# EAGLE library part POKET_BEAGLE_PINOUT_P2_SIDE (library Pocket_Beagle_Pinout)
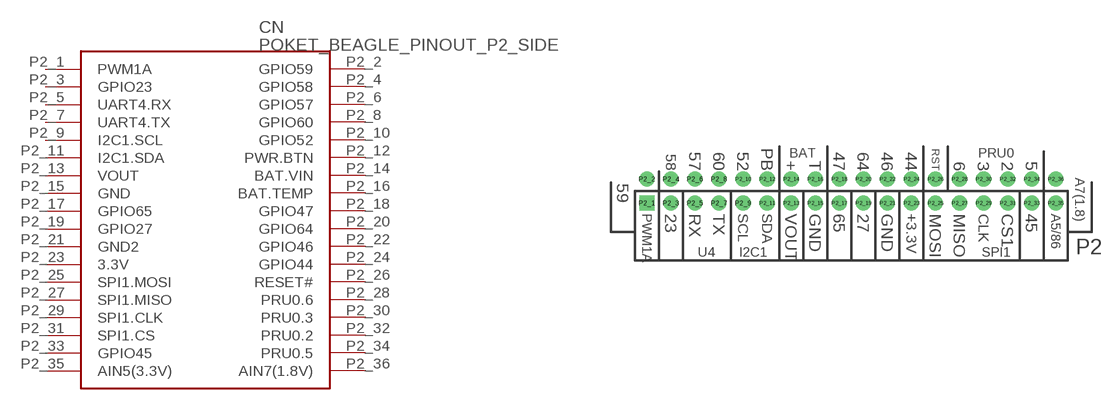
[diagram p3: symbol with the pads of POKET_BEAGLE_PINOUT_P2_SIDE; footprint POKET_BEAGLE_PINOUT_P2_SIDE]

Designator prefix CN

## POKET_BEAGLE_PINOUT_P2_SIDE  [POKET_BEAGLE_PINOUT_P2_SIDE]
P2_1  PWM1A
P2_2  GPIO59
P2_3  GPIO23
P2_4  GPIO58
P2_5  UART4.RX
P2_6  GPIO57
P2_7  UART4.TX
P2_8  GPIO60
P2_9  I2C1.SCL
P2_10  GPIO52
P2_11  I2C1.SDA
P2_12  PWR.BTN
P2_13  VOUT
P2_14  BAT.VIN
P2_15  GND
P2_16  BAT.TEMP
P2_17  GPIO65
P2_18  GPIO47
P2_19  GPIO27
P2_20  GPIO64
P2_21  GND2
P2_22  GPIO46
P2_23  3.3V
P2_24  GPIO44
P2_25  SPI1.MOSI
P2_26  RESET#
P2_27  SPI1.MISO
P2_28  PRU0.6
P2_29  SPI1.CLK
P2_30  PRU0.3
P2_31  SPI1.CS
P2_32  PRU0.2
P2_33  GPIO45
P2_34  PRU0.5
P2_35  AIN5(3.3V)
P2_36  AIN7(1.8V)

## Footprint POKET_BEAGLE_PINOUT_P2_SIDE (pad centres in mm)
drill 0.8 pad 1.6 square: P2_1 -21.59,-1.27
drill 0.8 pad 1.6: P2_2 -21.59,1.27; P2_3 -19.05,-1.27; P2_4 -19.05,1.27; P2_5 -16.51,-1.27; P2_6 -16.51,1.27; P2_7 -13.97,-1.27; P2_8 -13.97,1.27; P2_9 -11.43,-1.27; P2_10 -11.43,1.27; P2_11 -8.89,-1.27; P2_12 -8.89,1.27; P2_13 -6.35,-1.27; P2_14 -6.35,1.27; P2_15 -3.81,-1.27; P2_16 -3.81,1.27; P2_17 -1.27,-1.27; P2_18 -1.27,1.27; P2_19 1.27,-1.27; P2_20 1.27,1.27; P2_21 3.81,-1.27; P2_22 3.81,1.27; P2_23 6.35,-1.27; P2_24 6.35,1.27; P2_25 8.89,-1.27; P2_26 8.89,1.27; P2_27 11.43,-1.27; P2_28 11.43,1.27; P2_29 13.97,-1.27; P2_30 13.97,1.27; P2_31 16.51,-1.27; P2_32 16.51,1.27; P2_33 19.05,-1.27; P2_34 19.05,1.27; P2_35 21.59,-1.27; P2_36 21.59,1.27